# Altium schematic symbol library RES0805.SchLib: 1 symbol
Pins are listed as number, name and electrical type; pins without a type are passive.

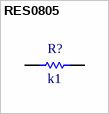
[diagram p0: symbol RES0805]

## RES0805
designator R?, comment k1
RES0805
footprint RES0805
pins: 1, 2